# EAGLE library part MPU-9250 (library MPU-9250)
Axis=3 Axis Gyro+3 Axis Accel+Compass. Pin For Pin With m Check prices <https://pricing.snapeda.com/parts/MPU-9250/TDK%20InvenSense/view-part?ref=eda>
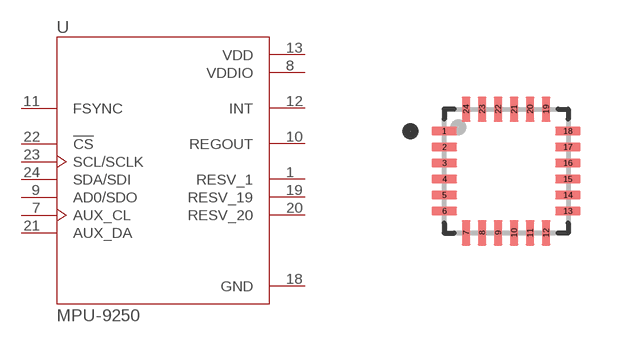
[diagram p0: symbol with the pads of QFN40P300X300X105-24N; footprint QFN40P300X300X105-24N]

Designator prefix U

## MPU-9250 (Availability: Bad; Description: Accelerometer, Gyroscope, Magnetometer, 9 Axis Sensor I²C, SPI Output; MF: TDK InvenSense; MP: MPU-9250; Package: TFQFN-24 TDK InvenSense; Price: None)  [QFN40P300X300X105-24N]
1  RESV_1  pas
7  AUX_CL  in
8  VDDIO  pwr
9  AD0/SDO  out
10  REGOUT  out
11  FSYNC  in
12  INT  out
13  VDD  pwr
18  GND  pwr
19  RESV_19  pas
20  RESV_20  pas
21  AUX_DA  in
22  !CS  in
23  SCL/SCLK  in
24  SDA/SDI

## Footprint QFN40P300X300X105-24N (pad centres in mm)
smd 0.64 x 0.22: 1 -1.545,1; 2 -1.545,0.6; 3 -1.545,0.2; 4 -1.545,-0.2; 5 -1.545,-0.6; 6 -1.545,-1; 13 1.545,-1; 14 1.545,-0.6; 15 1.545,-0.2; 16 1.545,0.2; 17 1.545,0.6; 18 1.545,1
smd 0.22 x 0.64: 7 -1,-1.545; 8 -0.6,-1.545; 9 -0.2,-1.545; 10 0.2,-1.545; 11 0.6,-1.545; 12 1,-1.545; 19 1,1.545; 20 0.6,1.545; 21 0.2,1.545; 22 -0.2,1.545; 23 -0.6,1.545; 24 -1,1.545